# EAGLE library part I-04525_R8C-M12A (library Akizuki)
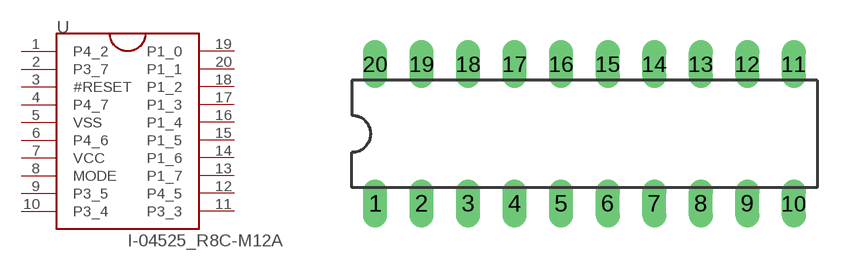
[diagram p8: symbol with the pads of DIL20; footprint DIL20]

Designator prefix U

## I-04525_R8C-M12A  [DIL20]
1  P4_2
2  P3_7
3  #RESET
4  P4_7
5  VSS
6  P4_6
7  VCC
8  MODE
9  P3_5
10  P3_4
11  P3_3
12  P4_5
13  P1_7
14  P1_6
15  P1_5
16  P1_4
17  P1_3
18  P1_2
19  P1_0
20  P1_1

## Footprint DIL20 (pad centres in mm)
Dual In Line Package
drill 0.813 long: 1 -11.43,-3.81; 2 -8.89,-3.81; 3 -6.35,-3.81; 4 -3.81,-3.81; 5 -1.27,-3.81; 6 1.27,-3.81; 7 3.81,-3.81; 8 6.35,-3.81; 9 8.89,-3.81; 10 11.43,-3.81; 11 11.43,3.81; 12 8.89,3.81; 13 6.35,3.81; 14 3.81,3.81; 15 1.27,3.81; 16 -1.27,3.81; 17 -3.81,3.81; 18 -6.35,3.81; 19 -8.89,3.81; 20 -11.43,3.81